# EAGLE library part M95M02-A125 (library st-microelectronics)
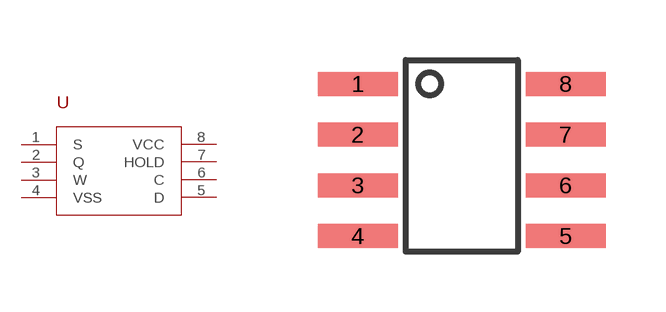
[diagram p50: symbol with the pads of M95M02-A125; footprint M95M02-A125]

Designator prefix U

## M95M02-A125  [M95M02-A125]
1  S
2  Q
3  W
4  VSS
5  D
6  C
7  HOLD
8  VCC

## Footprint M95M02-A125 (pad centres in mm)
smd 2 x 0.6: 1 0,0; 2 0,-1.27; 3 0,-2.54; 4 0,-3.81; 5 5.2,-3.81; 6 5.2,-2.54; 7 5.2,-1.27; 8 5.2,0